# Altium integrated library wiz8.IntLib: 1 symbol
Pins are listed as number, name and electrical type; pins without a type are passive.

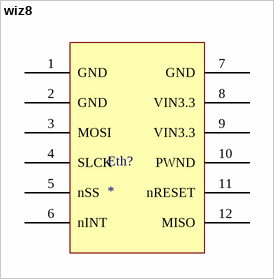
[diagram p0: symbol wiz8]

## wiz8
designator Eth?
footprint wiz8
pins: 1 GND, 2 GND, 3 MOSI, 4 SLCK, 5 nSS, 6 nINT, 7 GND, 8 VIN3.3, 9 VIN3.3, 10 PWND, 11 nRESET, 12 MISO